# EAGLE library part CONN (library FaBo-Flex)
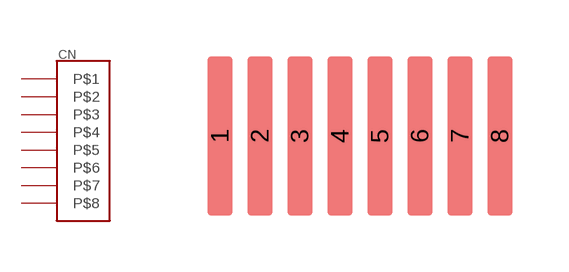
[diagram p0: symbol with the pads of 1X8_1MM; footprint 1X8_1MM]

Designator prefix CN

## CONN_1X8  [1X8_1MM]
1  P$1
2  P$2
3  P$3
4  P$4
5  P$5
6  P$6
7  P$7
8  P$8

## Footprint 1X8_1MM (pad centres in mm)
smd 0.635 x 4: 1 -3.5,0; 2 -2.5,0; 3 -1.5,0; 4 -0.5,0; 5 0.5,0; 6 1.5,0; 7 2.5,0; 8 3.5,0